# EAGLE library part AD5206 (library LARS_409_MC)
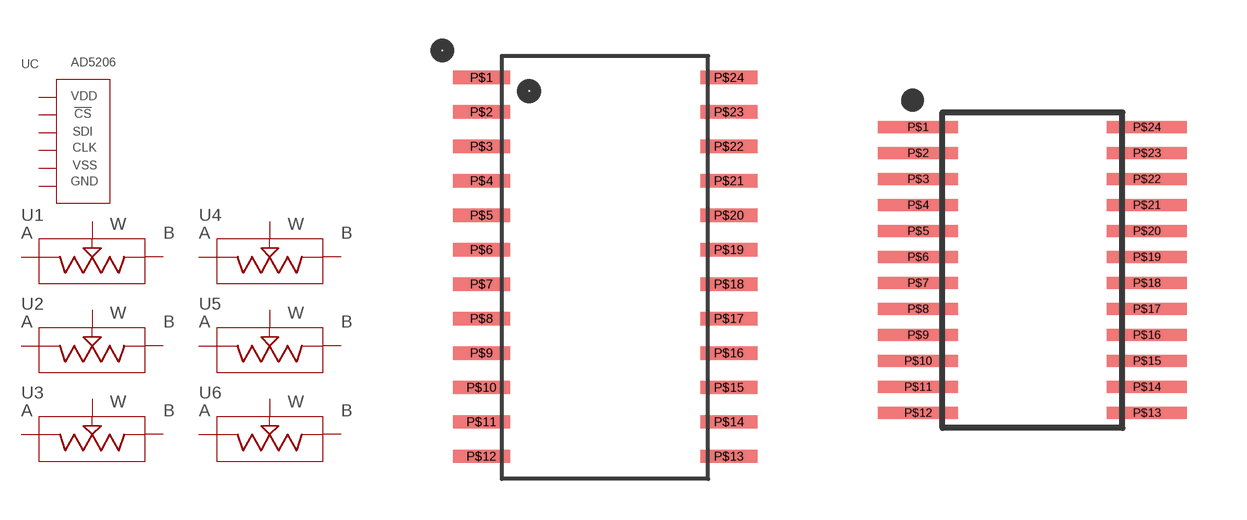
[diagram p38: symbol with the pads of SOIC-24; footprints SOIC-24, TSSOP-24]

Designator prefix U; gates C=DIPO2 1=DIPO1 2=DIPO1 3=DIPO1 4=DIPO1 5=DIPO1 6=DIPO1

## AD5206  [SOIC-24]
P$1  6:A1
P$2  6:W1
P$3  6:B1
P$4  C:GND
P$5  C:!CS
P$6  C:VDD
P$7  C:SDI
P$8  C:CLK
P$9  C:VSS
P$10  5:B1
P$11  5:W1
P$12  5:A1
P$13  3:B1
P$14  3:W1
P$15  3:A1
P$16  1:B1
P$17  1:W1
P$18  1:A1
P$19  2:A1
P$20  2:W1
P$21  2:B1
P$22  4:A1
P$23  4:W1
P$24  4:B1

## AD5206DEHXVFH  [TSSOP-24]
Pads as for SOIC-24

## Footprint SOIC-24 (pad centres in mm)
smd 2.1 x 0.49: P$1 -4.56,7; P$2 -4.56,5.73; P$3 -4.56,4.46; P$4 -4.56,3.19; P$5 -4.56,1.92; P$6 -4.56,0.65; P$7 -4.56,-0.62; P$8 -4.56,-1.89; P$9 -4.56,-3.16; P$10 -4.56,-4.43; P$11 -4.56,-5.7; P$12 -4.56,-6.97; P$13 4.56,-6.97; P$14 4.56,-5.7; P$15 4.56,-4.43; P$16 4.56,-3.16; P$17 4.56,-1.89; P$18 4.56,-0.62; P$19 4.56,0.65; P$20 4.56,1.92; P$21 4.56,3.19; P$22 4.56,4.46; P$23 4.56,5.73; P$24 4.56,7

## Footprint TSSOP-24 (pad centres in mm)
smd 2 x 0.3: P$1 -2.86,3.575; P$2 -2.86,2.925; P$3 -2.86,2.275; P$4 -2.86,1.625; P$5 -2.86,0.975; P$6 -2.86,0.325; P$7 -2.86,-0.325; P$8 -2.86,-0.975; P$9 -2.86,-1.625; P$10 -2.86,-2.275; P$11 -2.86,-2.925; P$12 -2.86,-3.575; P$13 2.86,-3.575; P$14 2.86,-2.925; P$15 2.86,-2.275; P$16 2.86,-1.625; P$17 2.86,-0.975; P$18 2.86,-0.325; P$19 2.86,0.325; P$20 2.86,0.975; P$21 2.86,1.625; P$22 2.86,2.275; P$23 2.86,2.925; P$24 2.86,3.575